# Altium footprint library SinglePad.PcbLib: 6 footprints
Each footprint in its own frame and in the unit in brackets; x right, y up, seen from the top. Pads: shape width x height; smd on the part's side, far side on the other; paste and mask are expansions set on the pad; w line width, h text height; cw(c..) or ccw(c..) is an arc to the next point about the centre after c.
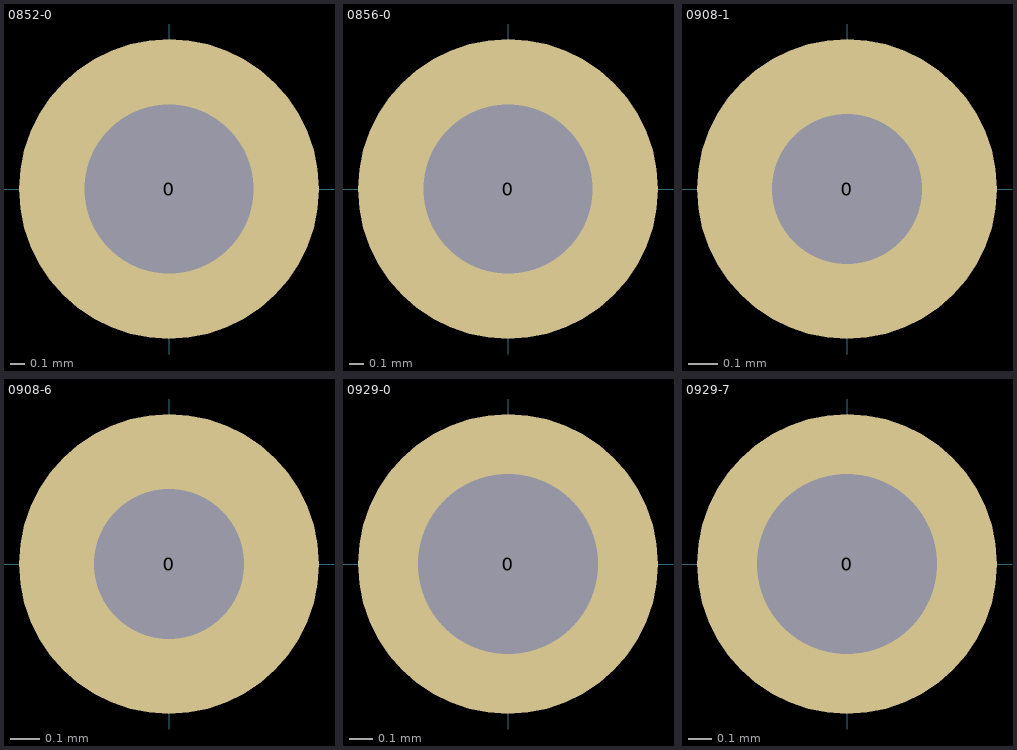
[diagram p0: the footprints below, top view; thin cyan lines are the x and y axes]

## 0852-0 [mil]
pads (1):
  round 80 hole 45: 0(0,0)
3D body "0852-0-15-20-83-14-11-0.stp": height 145, standoff -364, extent -55.5,-55.5 55.5,55.5

## 0856-0 [mil]
pads (1):
  round 80 hole 45: 0(0,0)
3D body "0856-0-15-20-82-14-11-0_midstroke.stp": height 110, standoff -364.5, extent -76.5,-76.5 76.5,76.5

## 0908-1 [mil] "Mill-Max Spring Loaded Contact"
height 275
pads (1):
  round 40 hole 20: 0(0,0)
3D body "mill-max-0908-1-15-20-75-14-11-0.step": height 50, standoff -294, extent -35.99,-36 36.01,36

## 0908-6 [mil] "Mill-Max Spring-Loaded Contact"
height 370
pads (1):
  round 40 hole 20: 0(0,0)
3D body "mill-max-0908-6-15-20-75-14-11-0.step": height 50, standoff -389, extent -35.99,-35.99 36.01,36.01

## 0929-0 [mil] "340 thou"
height 275
pads (1):
  round 50 hole 30: 0(0,0)
3D body "mill-max-0929-0-15-20-75-14-11-0.step": height 220, standoff -355, extent -36,-36 36,36

## 0929-7 [mil] "480 thou"
height 275
pads (1):
  round 50 hole 30: 0(0,0)
3D body "mill-max-0929-7-15-20-75-14-11-0.step": height 220, standoff -495, extent -35.99,-36 36.01,36